# Altium schematic symbol library 9774030592R.SchLib: 1 symbol
Pins are listed as number, name and electrical type; pins without a type are passive.

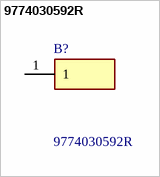
[diagram p0: symbol 9774030592R]

## 9774030592R
designator B?
WA-SMSI SMT Steel Spacer, M5 Internal non Stop steel, tin plated with internal thread M5 non stop outer 9.2mm, reduced to 5.8mm on PCB-side for a borehole body length 3.0mm on Reel, with Polyimide Tape; Manufacturer_Name: Wurth Elektronik; Geometry.Height: 3mm; Mouser Part Number: 710-9774030592R; Mouser Price/Stock: https://www.mouser.co.uk/ProductDetail/Wurth-Elektronik/9774030592R?qs=iLbezkQI%252BsiNSOBHLp2x0A%3D%3D; Manufacturer_Part_Number: 9774030592R; Datasheet Link: https://www.we-online.com/catalog/datasheet/9774030592R.pdf
footprint 9774030592R
pins: 1